# Altium footprint library 4-794618-2.PcbLib: 2 footprints
Each footprint in its own frame and in the unit in brackets; x right, y up, seen from the top. Pads: shape width x height; smd on the part's side, far side on the other; paste and mask are expansions set on the pad; w line width, h text height; cw(c..) or ccw(c..) is an arc to the next point about the centre after c.
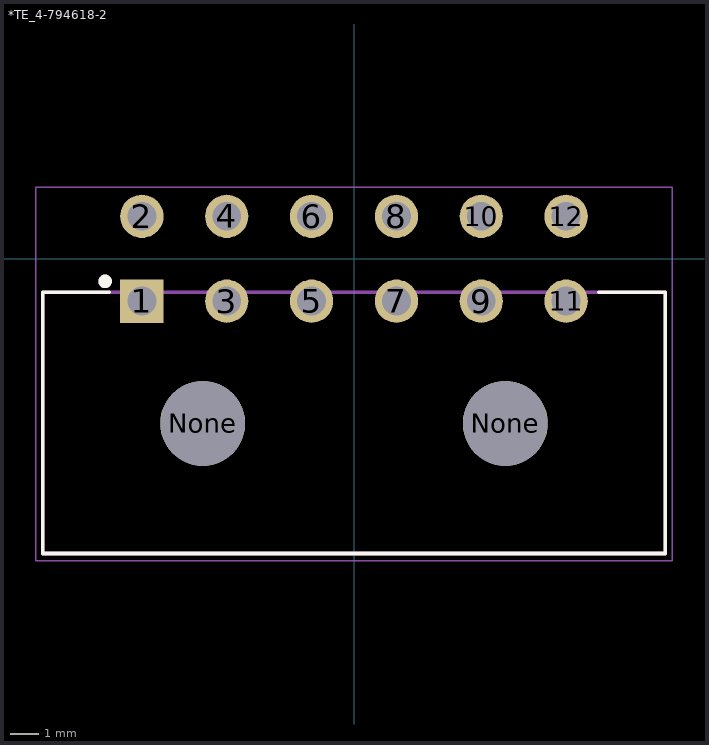
[diagram p0: the footprints below, top view; thin cyan lines are the x and y axes]

## *TE_4-794618-2 [mm]
pads (14):
  rect 1.53x1.53 hole 1.02: 1(-7.5,-1.5)
  round 1.53 hole 1.02: 2(-7.5,1.5) 3(-4.5,-1.5) 4(-4.5,1.5) 5(-1.5,-1.5) 6(-1.5,1.5) 7(1.5,-1.5) 8(1.5,1.5) 9(4.5,-1.5) 10(4.5,1.5) 11(7.5,-1.5) 12(7.5,1.5)
  round 3 hole 3 unplated: None(-5.35,-5.82) None(5.35,-5.82)
Top Overlay:
  circle w0.24: c-8.8,-0.8 r0.12
  lines w0.127: -8.65,-1.18 -11,-1.18 -11,-10.42 11,-10.42 11,-1.18 8.65,-1.18
Mechanical 4:
  circle w0.24: c-8.8,-0.8 r0.12
  circle w0.24: c-8.8,-0.8 r0.12
  lines w0.127: -11,-10.42 11,-10.42 ; -11,-10.42 -11,-1.18 ; -11,-10.42 11,-10.42 ; -11,-10.42 -11,-1.18 ; -11,-1.18 11,-1.18 ; -11,-1.18 11,-1.18 ; 11,-10.42 11,-1.18 ; 11,-10.42 11,-1.18
Mechanical 16:
  lines w0.05: -11.25,-10.67 11.25,-10.67 11.25,2.52 -11.25,2.52 -11.25,-10.67

## PCBComponent_1 [mm]